# Altium footprint library JST_BM04B-SRSS-TB(LF)(SN).PcbLib: 1 footprints
Each footprint in its own frame and in the unit in brackets; x right, y up, seen from the top. Pads: shape width x height; smd on the part's side, far side on the other; paste and mask are expansions set on the pad; w line width, h text height; cw(c..) or ccw(c..) is an arc to the next point about the centre after c.
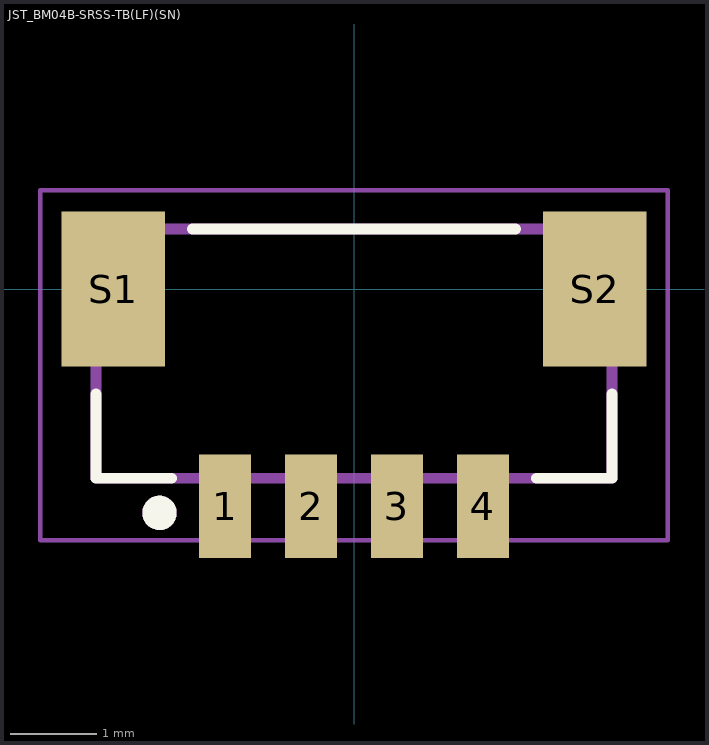
[diagram p0: the footprint, top view; thin cyan lines are the x and y axes]

## JST_BM04B-SRSS-TB(LF)(SN) [mm]
height 6.3
pads (6):
  rect 0.6x1.2 smd: 1(-1.5,-2.525) 2(-0.5,-2.525) 3(0.5,-2.525) 4(1.5,-2.525)
  rect 1.2x1.8 smd: S1(-2.8,0) S2(2.8,0)
Top Overlay:
  circle w0.2: c-2.262,-2.603 r0.1
  lines w0.127: -3,-1.22 -3,-2.2 -2.12,-2.2 ; -1.88,0.7 1.88,0.7 ; 2.12,-2.2 3,-2.2 3,-1.22
Mechanical 13:
  circle w0.2: c-2.262,-2.603 r0.1
  lines w0.127: -3,-2.2 -3,0.7 3,0.7 3,-2.2 -3,-2.2
Mechanical 15:
  lines w0.05: -3.65,-2.921 3.65,-2.921 3.65,1.15 -3.65,1.15 -3.65,-2.921
3D body "step_temp.STEP": height 4.35, standoff 0, extent -3,-2.15 3,1.45